# Altium footprint library con-garry.PCBLIB: 24 footprints (part 1 of 2)
Each footprint in its own frame and in the unit in brackets; x right, y up, seen from the top. Pads: shape width x height; smd on the part's side, far side on the other; paste and mask are expansions set on the pad; w line width, h text height; cw(c..) or ccw(c..) is an arc to the next point about the centre after c.
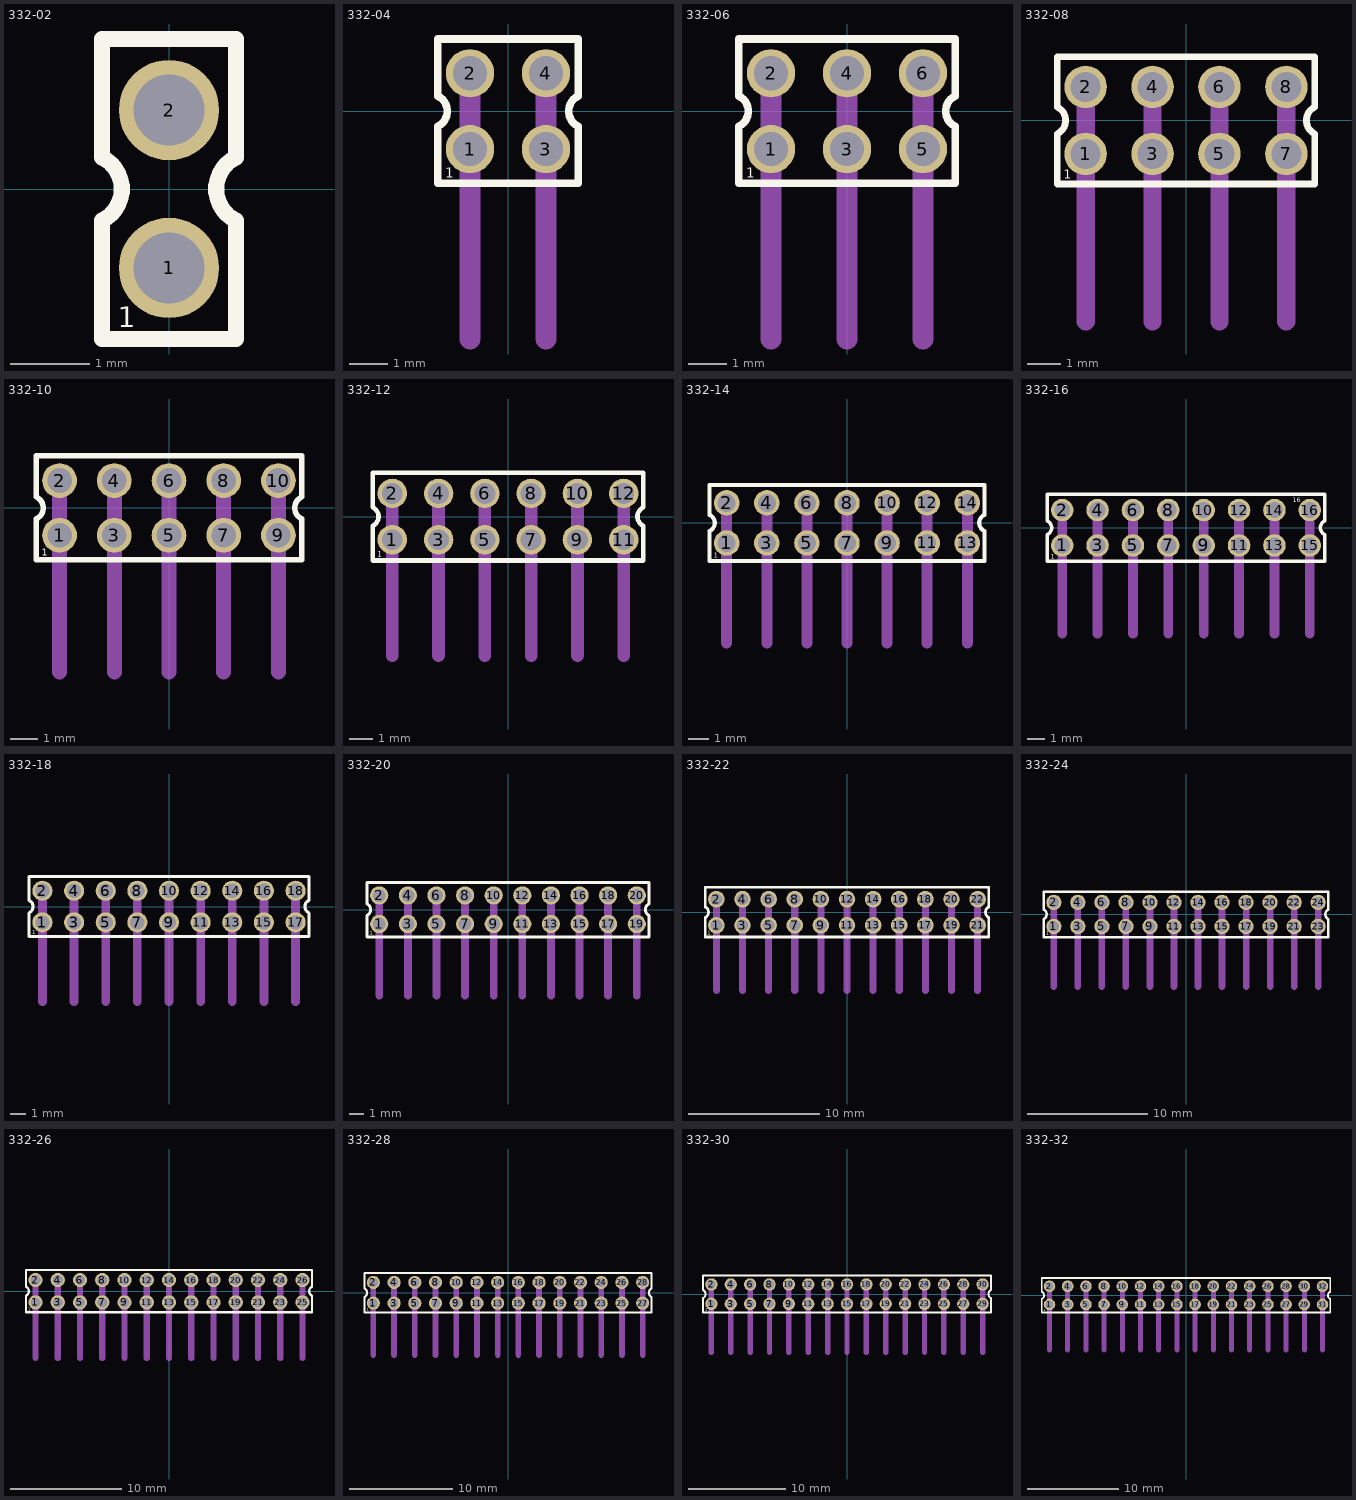
[diagram p0: the footprints below, top view; thin cyan lines are the x and y axes]

## 332-02 [mm]
pads (2):
  round 1.27 hole 0.9: 1(0,-1) 2(0,1)
Top Overlay:
  lines w0.203: -0.85,-1.9 0.85,-1.9 0.85,-0.4 cw(c1.04,0) 0.85,0.4 0.85,1.9 -0.85,1.9 -0.85,0.4 cw(c-1.04,0) -0.85,-0.4 -0.85,-1.9
  text "1" at -0.65,-1.75 h0.26
Mechanical 16:
  rectangle: -0.25,-1.25 0.25,-0.75
  rectangle: -0.25,0.75 0.25,1.25

## 332-04 [mm]
pads (4):
  round 1.27 hole 0.9: 1(-1,-1) 2(-1,1) 3(1,-1) 4(1,1)
Top Overlay:
  lines w0.203: -1.85,-1.9 1.85,-1.9 1.85,-0.4 cw(c2.04,0) 1.85,0.4 1.85,1.9 -1.85,1.9 -1.85,0.4 cw(c-2.04,0) -1.85,-0.4 -1.85,-1.9
  text "1" at -1.65,-1.75 h0.26
Mechanical 16:
  rectangle: -1.25,-1.25 -0.75,-0.75
  rectangle: -1.25,0.75 -0.75,1.25
  rectangle: 0.75,-1.25 1.25,-0.75
  rectangle: 0.75,0.75 1.25,1.25
  lines w0.55: -1,-6 -1,1 ; 1,-6 1,1

## 332-06 [mm]
pads (6):
  round 1.27 hole 0.9: 1(-2,-1) 2(-2,1) 3(0,-1) 4(0,1) 5(2,-1) 6(2,1)
Top Overlay:
  lines w0.203: -2.85,-1.9 2.85,-1.9 2.85,-0.4 cw(c3.04,0) 2.85,0.4 2.85,1.9 -2.85,1.9 -2.85,0.4 cw(c-3.04,0) -2.85,-0.4 -2.85,-1.9
  text "1" at -2.65,-1.75 h0.26
Mechanical 16:
  rectangle: -2.25,-1.25 -1.75,-0.75
  rectangle: -2.25,0.75 -1.75,1.25
  rectangle: -0.25,-1.25 0.25,-0.75
  rectangle: -0.25,0.75 0.25,1.25
  rectangle: 1.75,-1.25 2.25,-0.75
  rectangle: 1.75,0.75 2.25,1.25
  lines w0.55: -2,-6 -2,1 ; 0,-6 0,1 ; 2,-6 2,1

## 332-08 [mm]
pads (8):
  round 1.27 hole 0.9: 1(-3,-1) 2(-3,1) 3(-1,-1) 4(-1,1) 5(1,-1) 6(1,1) 7(3,-1) 8(3,1)
Top Overlay:
  lines w0.203: -3.85,-1.9 3.85,-1.9 3.85,-0.4 cw(c4.04,0) 3.85,0.4 3.85,1.9 -3.85,1.9 -3.85,0.4 cw(c-4.04,0) -3.85,-0.4 -3.85,-1.9
  text "1" at -3.65,-1.75 h0.26
Mechanical 16:
  rectangle: -3.25,-1.25 -2.75,-0.75
  rectangle: -3.25,0.75 -2.75,1.25
  rectangle: -1.25,-1.25 -0.75,-0.75
  rectangle: -1.25,0.75 -0.75,1.25
  rectangle: 0.75,-1.25 1.25,-0.75
  rectangle: 0.75,0.75 1.25,1.25
  rectangle: 2.75,-1.25 3.25,-0.75
  rectangle: 2.75,0.75 3.25,1.25
  lines w0.55: -3,-6 -3,1 ; -1,-6 -1,1 ; 1,-6 1,1 ; 3,-6 3,1

## 332-10 [mm]
pads (10):
  round 1.27 hole 0.9: 1(-4,-1) 2(-4,1) 3(-2,-1) 4(-2,1) 5(0,-1) 6(0,1) 7(2,-1) 8(2,1) 9(4,-1) 10(4,1)
Top Overlay:
  lines w0.203: -4.85,-1.9 4.85,-1.9 4.85,-0.4 cw(c5.04,0) 4.85,0.4 4.85,1.9 -4.85,1.9 -4.85,0.4 cw(c-5.04,0) -4.85,-0.4 -4.85,-1.9
  text "1" at -4.65,-1.75 h0.26
Mechanical 16:
  rectangle: -4.25,-1.25 -3.75,-0.75
  rectangle: -4.25,0.75 -3.75,1.25
  rectangle: -2.25,-1.25 -1.75,-0.75
  rectangle: -2.25,0.75 -1.75,1.25
  rectangle: -0.25,-1.25 0.25,-0.75
  rectangle: -0.25,0.75 0.25,1.25
  rectangle: 1.75,-1.25 2.25,-0.75
  rectangle: 1.75,0.75 2.25,1.25
  rectangle: 3.75,-1.25 4.25,-0.75
  rectangle: 3.75,0.75 4.25,1.25
  lines w0.55: -4,-6 -4,1 ; -2,-6 -2,1 ; 0,-6 0,1 ; 2,-6 2,1 ; 4,-6 4,1

## 332-12 [mm]
pads (12):
  round 1.27 hole 0.9: 1(-5,-1) 2(-5,1) 3(-3,-1) 4(-3,1) 5(-1,-1) 6(-1,1) 7(1,-1) 8(1,1) 9(3,-1) 10(3,1) 11(5,-1) 12(5,1)
Top Overlay:
  lines w0.203: -5.85,-1.9 5.85,-1.9 5.85,-0.4 cw(c6.04,0) 5.85,0.4 5.85,1.9 -5.85,1.9 -5.85,0.4 cw(c-6.04,0) -5.85,-0.4 -5.85,-1.9
  text "1" at -5.65,-1.75 h0.26
Mechanical 16:
  rectangle: -5.25,-1.25 -4.75,-0.75
  rectangle: -5.25,0.75 -4.75,1.25
  rectangle: -3.25,-1.25 -2.75,-0.75
  rectangle: -3.25,0.75 -2.75,1.25
  rectangle: -1.25,-1.25 -0.75,-0.75
  rectangle: -1.25,0.75 -0.75,1.25
  rectangle: 0.75,-1.25 1.25,-0.75
  rectangle: 0.75,0.75 1.25,1.25
  rectangle: 2.75,-1.25 3.25,-0.75
  rectangle: 2.75,0.75 3.25,1.25
  rectangle: 4.75,-1.25 5.25,-0.75
  rectangle: 4.75,0.75 5.25,1.25
  lines w0.55: -5,-6 -5,1 ; -3,-6 -3,1 ; -1,-6 -1,1 ; 1,-6 1,1 ; 3,-6 3,1 ; 5,-6 5,1

## 332-14 [mm]
pads (14):
  round 1.27 hole 0.9: 1(-6,-1) 2(-6,1) 3(-4,-1) 4(-4,1) 5(-2,-1) 6(-2,1) 7(0,-1) 8(0,1) 9(2,-1) 10(2,1) 11(4,-1) 12(4,1) 13(6,-1) 14(6,1)
Top Overlay:
  lines w0.203: -6.85,-1.9 6.85,-1.9 6.85,-0.4 cw(c7.04,0) 6.85,0.4 6.85,1.9 -6.85,1.9 -6.85,0.4 cw(c-7.04,0) -6.85,-0.4 -6.85,-1.9
  text "1" at -6.65,-1.75 h0.26
Mechanical 16:
  rectangle: -6.25,-1.25 -5.75,-0.75
  rectangle: -6.25,0.75 -5.75,1.25
  rectangle: -4.25,-1.25 -3.75,-0.75
  rectangle: -4.25,0.75 -3.75,1.25
  rectangle: -2.25,-1.25 -1.75,-0.75
  rectangle: -2.25,0.75 -1.75,1.25
  rectangle: -0.25,-1.25 0.25,-0.75
  rectangle: -0.25,0.75 0.25,1.25
  rectangle: 1.75,-1.25 2.25,-0.75
  rectangle: 1.75,0.75 2.25,1.25
  rectangle: 3.75,-1.25 4.25,-0.75
  rectangle: 3.75,0.75 4.25,1.25
  rectangle: 5.75,-1.25 6.25,-0.75
  rectangle: 5.75,0.75 6.25,1.25
  lines w0.55: -6,-6 -6,1 ; -4,-6 -4,1 ; -2,-6 -2,1 ; 0,-6 0,1 ; 2,-6 2,1 ; 4,-6 4,1 ; 6,-6 6,1

## 332-16 [mm]
pads (16):
  round 1.27 hole 0.9: 1(-7,-1) 2(-7,1) 3(-5,-1) 4(-5,1) 5(-3,-1) 6(-3,1) 7(-1,-1) 8(-1,1) 9(1,-1) 10(1,1) 11(3,-1) 12(3,1) 13(5,-1) 14(5,1) 15(7,-1) 16(7,1)
Top Overlay:
  lines w0.203: -7.85,-1.9 7.85,-1.9 7.85,-0.4 cw(c8.04,0) 7.85,0.4 7.85,1.9 -7.85,1.9 -7.85,0.4 cw(c-8.04,0) -7.85,-0.4 -7.85,-1.9
  text "1" at -7.65,-1.75 h0.26
  text "16" at 6.025,1.45 h0.26
Mechanical 16:
  rectangle: -7.25,-1.25 -6.75,-0.75
  rectangle: -7.25,0.75 -6.75,1.25
  rectangle: -5.25,-1.25 -4.75,-0.75
  rectangle: -5.25,0.75 -4.75,1.25
  rectangle: -3.25,-1.25 -2.75,-0.75
  rectangle: -3.25,0.75 -2.75,1.25
  rectangle: -1.25,-1.25 -0.75,-0.75
  rectangle: -1.25,0.75 -0.75,1.25
  rectangle: 0.75,-1.25 1.25,-0.75
  rectangle: 0.75,0.75 1.25,1.25
  rectangle: 2.75,-1.25 3.25,-0.75
  rectangle: 2.75,0.75 3.25,1.25
  rectangle: 4.75,-1.25 5.25,-0.75
  rectangle: 4.75,0.75 5.25,1.25
  rectangle: 6.75,-1.25 7.25,-0.75
  rectangle: 6.75,0.75 7.25,1.25
  lines w0.55: -7,-6 -7,1 ; -5,-6 -5,1 ; -3,-6 -3,1 ; -1,-6 -1,1 ; 1,-6 1,1 ; 3,-6 3,1 ; 5,-6 5,1 ; 7,-6 7,1

## 332-18 [mm]
pads (18):
  round 1.27 hole 0.9: 1(-8,-1) 2(-8,1) 3(-6,-1) 4(-6,1) 5(-4,-1) 6(-4,1) 7(-2,-1) 8(-2,1) 9(0,-1) 10(0,1) 11(2,-1) 12(2,1) 13(4,-1) 14(4,1) 15(6,-1) 16(6,1) 17(8,-1) 18(8,1)
Top Overlay:
  lines w0.203: -8.85,-1.9 8.85,-1.9 8.85,-0.4 cw(c9.04,0) 8.85,0.4 8.85,1.9 -8.85,1.9 -8.85,0.4 cw(c-9.04,0) -8.85,-0.4 -8.85,-1.9
  text "1" at -8.65,-1.75 h0.26
Mechanical 16:
  rectangle: -8.25,-1.25 -7.75,-0.75
  rectangle: -8.25,0.75 -7.75,1.25
  rectangle: -6.25,-1.25 -5.75,-0.75
  rectangle: -6.25,0.75 -5.75,1.25
  rectangle: -4.25,-1.25 -3.75,-0.75
  rectangle: -4.25,0.75 -3.75,1.25
  rectangle: -2.25,-1.25 -1.75,-0.75
  rectangle: -2.25,0.75 -1.75,1.25
  rectangle: -0.25,-1.25 0.25,-0.75
  rectangle: -0.25,0.75 0.25,1.25
  rectangle: 1.75,-1.25 2.25,-0.75
  rectangle: 1.75,0.75 2.25,1.25
  rectangle: 3.75,-1.25 4.25,-0.75
  rectangle: 3.75,0.75 4.25,1.25
  rectangle: 5.75,-1.25 6.25,-0.75
  rectangle: 5.75,0.75 6.25,1.25
  rectangle: 7.75,-1.25 8.25,-0.75
  rectangle: 7.75,0.75 8.25,1.25
  lines w0.55: -8,-6 -8,1 ; -6,-6 -6,1 ; -4,-6 -4,1 ; -2,-6 -2,1 ; 0,-6 0,1 ; 2,-6 2,1 ; 4,-6 4,1 ; 6,-6 6,1 ; 8,-6 8,1

## 332-20 [mm]
pads (20):
  round 1.27 hole 0.9: 1(-9,-1) 2(-9,1) 3(-7,-1) 4(-7,1) 5(-5,-1) 6(-5,1) 7(-3,-1) 8(-3,1) 9(-1,-1) 10(-1,1) 11(1,-1) 12(1,1) 13(3,-1) 14(3,1) 15(5,-1) 16(5,1) 17(7,-1) 18(7,1) 19(9,-1) 20(9,1)
Top Overlay:
  lines w0.203: -9.85,-1.9 9.85,-1.9 9.85,-0.4 cw(c10.04,0) 9.85,0.4 9.85,1.9 -9.85,1.9 -9.85,0.4 cw(c-10.04,0) -9.85,-0.4 -9.85,-1.9
  text "1" at -9.65,-1.75 h0.26
Mechanical 16:
  rectangle: -9.25,-1.25 -8.75,-0.75
  rectangle: -9.25,0.75 -8.75,1.25
  rectangle: -7.25,-1.25 -6.75,-0.75
  rectangle: -7.25,0.75 -6.75,1.25
  rectangle: -5.25,-1.25 -4.75,-0.75
  rectangle: -5.25,0.75 -4.75,1.25
  rectangle: -3.25,-1.25 -2.75,-0.75
  rectangle: -3.25,0.75 -2.75,1.25
  rectangle: -1.25,-1.25 -0.75,-0.75
  rectangle: -1.25,0.75 -0.75,1.25
  rectangle: 0.75,-1.25 1.25,-0.75
  rectangle: 0.75,0.75 1.25,1.25
  rectangle: 2.75,-1.25 3.25,-0.75
  rectangle: 2.75,0.75 3.25,1.25
  rectangle: 4.75,-1.25 5.25,-0.75
  rectangle: 4.75,0.75 5.25,1.25
  rectangle: 6.75,-1.25 7.25,-0.75
  rectangle: 6.75,0.75 7.25,1.25
  rectangle: 8.75,-1.25 9.25,-0.75
  rectangle: 8.75,0.75 9.25,1.25
  lines w0.55: -9,-6 -9,1 ; -7,-6 -7,1 ; -5,-6 -5,1 ; -3,-6 -3,1 ; -1,-6 -1,1 ; 1,-6 1,1 ; 3,-6 3,1 ; 5,-6 5,1 ; 7,-6 7,1 ; 9,-6 9,1

## 332-22 [mm]
pads (22):
  round 1.27 hole 0.9: 1(-10,-1) 2(-10,1) 3(-8,-1) 4(-8,1) 5(-6,-1) 6(-6,1) 7(-4,-1) 8(-4,1) 9(-2,-1) 10(-2,1) 11(0,-1) 12(0,1) 13(2,-1) 14(2,1) 15(4,-1) 16(4,1) 17(6,-1) 18(6,1) 19(8,-1) 20(8,1) 21(10,-1) 22(10,1)
Top Overlay:
  lines w0.203: -10.85,-1.9 10.85,-1.9 10.85,-0.4 cw(c11.04,0) 10.85,0.4 10.85,1.9 -10.85,1.9 -10.85,0.4 cw(c-11.04,0) -10.85,-0.4 -10.85,-1.9
  text "1" at -10.65,-1.75 h0.26
Mechanical 16:
  rectangle: -10.25,-1.25 -9.75,-0.75
  rectangle: -10.25,0.75 -9.75,1.25
  rectangle: -8.25,-1.25 -7.75,-0.75
  rectangle: -8.25,0.75 -7.75,1.25
  rectangle: -6.25,-1.25 -5.75,-0.75
  rectangle: -6.25,0.75 -5.75,1.25
  rectangle: -4.25,-1.25 -3.75,-0.75
  rectangle: -4.25,0.75 -3.75,1.25
  rectangle: -2.25,-1.25 -1.75,-0.75
  rectangle: -2.25,0.75 -1.75,1.25
  rectangle: -0.25,-1.25 0.25,-0.75
  rectangle: -0.25,0.75 0.25,1.25
  rectangle: 1.75,-1.25 2.25,-0.75
  rectangle: 1.75,0.75 2.25,1.25
  rectangle: 3.75,-1.25 4.25,-0.75
  rectangle: 3.75,0.75 4.25,1.25
  rectangle: 5.75,-1.25 6.25,-0.75
  rectangle: 5.75,0.75 6.25,1.25
  rectangle: 7.75,-1.25 8.25,-0.75
  rectangle: 7.75,0.75 8.25,1.25
  rectangle: 9.75,-1.25 10.25,-0.75
  rectangle: 9.75,0.75 10.25,1.25
  lines w0.55: -10,-6 -10,1 ; -8,-6 -8,1 ; -6,-6 -6,1 ; -4,-6 -4,1 ; -2,-6 -2,1 ; 0,-6 0,1 ; 2,-6 2,1 ; 4,-6 4,1 ; 6,-6 6,1 ; 8,-6 8,1 ; 10,-6 10,1

## 332-24 [mm]
pads (24):
  round 1.27 hole 0.9: 1(-11,-1) 2(-11,1) 3(-9,-1) 4(-9,1) 5(-7,-1) 6(-7,1) 7(-5,-1) 8(-5,1) 9(-3,-1) 10(-3,1) 11(-1,-1) 12(-1,1) 13(1,-1) 14(1,1) 15(3,-1) 16(3,1) 17(5,-1) 18(5,1) 19(7,-1) 20(7,1) 21(9,-1) 22(9,1) 23(11,-1) 24(11,1)
Top Overlay:
  lines w0.203: -11.85,-1.9 11.85,-1.9 11.85,-0.4 cw(c12.04,0) 11.85,0.4 11.85,1.9 -11.85,1.9 -11.85,0.4 cw(c-12.04,0) -11.85,-0.4 -11.85,-1.9
  text "1" at -11.65,-1.75 h0.26
Mechanical 16:
  rectangle: -11.25,-1.25 -10.75,-0.75
  rectangle: -11.25,0.75 -10.75,1.25
  rectangle: -9.25,-1.25 -8.75,-0.75
  rectangle: -9.25,0.75 -8.75,1.25
  rectangle: -7.25,-1.25 -6.75,-0.75
  rectangle: -7.25,0.75 -6.75,1.25
  rectangle: -5.25,-1.25 -4.75,-0.75
  rectangle: -5.25,0.75 -4.75,1.25
  rectangle: -3.25,-1.25 -2.75,-0.75
  rectangle: -3.25,0.75 -2.75,1.25
  rectangle: -1.25,-1.25 -0.75,-0.75
  rectangle: -1.25,0.75 -0.75,1.25
  rectangle: 0.75,-1.25 1.25,-0.75
  rectangle: 0.75,0.75 1.25,1.25
  rectangle: 2.75,-1.25 3.25,-0.75
  rectangle: 2.75,0.75 3.25,1.25
  rectangle: 4.75,-1.25 5.25,-0.75
  rectangle: 4.75,0.75 5.25,1.25
  rectangle: 6.75,-1.25 7.25,-0.75
  rectangle: 6.75,0.75 7.25,1.25
  rectangle: 8.75,-1.25 9.25,-0.75
  rectangle: 8.75,0.75 9.25,1.25
  rectangle: 10.75,-1.25 11.25,-0.75
  rectangle: 10.75,0.75 11.25,1.25
  lines w0.55: -11,-6 -11,1 ; -9,-6 -9,1 ; -7,-6 -7,1 ; -5,-6 -5,1 ; -3,-6 -3,1 ; -1,-6 -1,1 ; 1,-6 1,1 ; 3,-6 3,1 ; 5,-6 5,1 ; 7,-6 7,1 ; 9,-6 9,1 ; 11,-6 11,1

## 332-26 [mm]
pads (26):
  round 1.27 hole 0.9: 1(-12,-1) 2(-12,1) 3(-10,-1) 4(-10,1) 5(-8,-1) 6(-8,1) 7(-6,-1) 8(-6,1) 9(-4,-1) 10(-4,1) 11(-2,-1) 12(-2,1) 13(0,-1) 14(0,1) 15(2,-1) 16(2,1) 17(4,-1) 18(4,1) 19(6,-1) 20(6,1) 21(8,-1) 22(8,1) 23(10,-1) 24(10,1) 25(12,-1) 26(12,1)
Top Overlay:
  lines w0.203: -12.85,-1.9 12.85,-1.9 12.85,-0.4 cw(c13.04,0) 12.85,0.4 12.85,1.9 -12.85,1.9 -12.85,0.4 cw(c-13.04,0) -12.85,-0.4 -12.85,-1.9
  text "1" at -12.65,-1.75 h0.26
Mechanical 16:
  rectangle: -12.25,-1.25 -11.75,-0.75
  rectangle: -12.25,0.75 -11.75,1.25
  rectangle: -10.25,-1.25 -9.75,-0.75
  rectangle: -10.25,0.75 -9.75,1.25
  rectangle: -8.25,-1.25 -7.75,-0.75
  rectangle: -8.25,0.75 -7.75,1.25
  rectangle: -6.25,-1.25 -5.75,-0.75
  rectangle: -6.25,0.75 -5.75,1.25
  rectangle: -4.25,-1.25 -3.75,-0.75
  rectangle: -4.25,0.75 -3.75,1.25
  rectangle: -2.25,-1.25 -1.75,-0.75
  rectangle: -2.25,0.75 -1.75,1.25
  rectangle: -0.25,-1.25 0.25,-0.75
  rectangle: -0.25,0.75 0.25,1.25
  rectangle: 1.75,-1.25 2.25,-0.75
  rectangle: 1.75,0.75 2.25,1.25
  rectangle: 3.75,-1.25 4.25,-0.75
  rectangle: 3.75,0.75 4.25,1.25
  rectangle: 5.75,-1.25 6.25,-0.75
  rectangle: 5.75,0.75 6.25,1.25
  rectangle: 7.75,-1.25 8.25,-0.75
  rectangle: 7.75,0.75 8.25,1.25
  rectangle: 9.75,-1.25 10.25,-0.75
  rectangle: 9.75,0.75 10.25,1.25
  rectangle: 11.75,-1.25 12.25,-0.75
  rectangle: 11.75,0.75 12.25,1.25
  lines w0.55: -12,-6 -12,1 ; -10,-6 -10,1 ; -8,-6 -8,1 ; -6,-6 -6,1 ; -4,-6 -4,1 ; -2,-6 -2,1 ; 0,-6 0,1 ; 2,-6 2,1 ; 4,-6 4,1 ; 6,-6 6,1 ; 8,-6 8,1 ; 10,-6 10,1 ; 12,-6 12,1

## 332-28 [mm]
pads (28):
  round 1.27 hole 0.9: 1(-13,-1) 2(-13,1) 3(-11,-1) 4(-11,1) 5(-9,-1) 6(-9,1) 7(-7,-1) 8(-7,1) 9(-5,-1) 10(-5,1) 11(-3,-1) 12(-3,1) 13(-1,-1) 14(-1,1) 15(1,-1) 16(1,1) 17(3,-1) 18(3,1) 19(5,-1) 20(5,1) 21(7,-1) 22(7,1) 23(9,-1) 24(9,1) 25(11,-1) 26(11,1) 27(13,-1) 28(13,1)
Top Overlay:
  lines w0.203: -13.85,-1.9 13.85,-1.9 13.85,-0.4 cw(c14.04,0) 13.85,0.4 13.85,1.9 -13.85,1.9 -13.85,0.4 cw(c-14.04,0) -13.85,-0.4 -13.85,-1.9
  text "1" at -13.65,-1.75 h0.26
Mechanical 16:
  rectangle: -13.25,-1.25 -12.75,-0.75
  rectangle: -13.25,0.75 -12.75,1.25
  rectangle: -11.25,-1.25 -10.75,-0.75
  rectangle: -11.25,0.75 -10.75,1.25
  rectangle: -9.25,-1.25 -8.75,-0.75
  rectangle: -9.25,0.75 -8.75,1.25
  rectangle: -7.25,-1.25 -6.75,-0.75
  rectangle: -7.25,0.75 -6.75,1.25
  rectangle: -5.25,-1.25 -4.75,-0.75
  rectangle: -5.25,0.75 -4.75,1.25
  rectangle: -3.25,-1.25 -2.75,-0.75
  rectangle: -3.25,0.75 -2.75,1.25
  rectangle: -1.25,-1.25 -0.75,-0.75
  rectangle: -1.25,0.75 -0.75,1.25
  rectangle: 0.75,-1.25 1.25,-0.75
  rectangle: 0.75,0.75 1.25,1.25
  rectangle: 2.75,-1.25 3.25,-0.75
  rectangle: 2.75,0.75 3.25,1.25
  rectangle: 4.75,-1.25 5.25,-0.75
  rectangle: 4.75,0.75 5.25,1.25
  rectangle: 6.75,-1.25 7.25,-0.75
  rectangle: 6.75,0.75 7.25,1.25
  rectangle: 8.75,-1.25 9.25,-0.75
  rectangle: 8.75,0.75 9.25,1.25
  rectangle: 10.75,-1.25 11.25,-0.75
  rectangle: 10.75,0.75 11.25,1.25
  rectangle: 12.75,-1.25 13.25,-0.75
  rectangle: 12.75,0.75 13.25,1.25
  lines w0.55: -13,-6 -13,1 ; -11,-6 -11,1 ; -9,-6 -9,1 ; -7,-6 -7,1 ; -5,-6 -5,1 ; -3,-6 -3,1 ; -1,-6 -1,1 ; 1,-6 1,1 ; 3,-6 3,1 ; 5,-6 5,1 ; 7,-6 7,1 ; 9,-6 9,1 ; 11,-6 11,1 ; 13,-6 13,1

## 332-30 [mm]
pads (30):
  round 1.27 hole 0.9: 1(-14,-1) 2(-14,1) 3(-12,-1) 4(-12,1) 5(-10,-1) 6(-10,1) 7(-8,-1) 8(-8,1) 9(-6,-1) 10(-6,1) 11(-4,-1) 12(-4,1) 13(-2,-1) 14(-2,1) 15(0,-1) 16(0,1) 17(2,-1) 18(2,1) 19(4,-1) 20(4,1) 21(6,-1) 22(6,1) 23(8,-1) 24(8,1) 25(10,-1) 26(10,1) 27(12,-1) 28(12,1) 29(14,-1) 30(14,1)
Top Overlay:
  lines w0.203: -14.85,-1.9 14.85,-1.9 14.85,-0.4 cw(c15.04,0) 14.85,0.4 14.85,1.9 -14.85,1.9 -14.85,0.4 cw(c-15.04,0) -14.85,-0.4 -14.85,-1.9
  text "1" at -14.65,-1.75 h0.26
Mechanical 16:
  rectangle: -14.25,-1.25 -13.75,-0.75
  rectangle: -14.25,0.75 -13.75,1.25
  rectangle: -12.25,-1.25 -11.75,-0.75
  rectangle: -12.25,0.75 -11.75,1.25
  rectangle: -10.25,-1.25 -9.75,-0.75
  rectangle: -10.25,0.75 -9.75,1.25
  rectangle: -8.25,-1.25 -7.75,-0.75
  rectangle: -8.25,0.75 -7.75,1.25
  rectangle: -6.25,-1.25 -5.75,-0.75
  rectangle: -6.25,0.75 -5.75,1.25
  rectangle: -4.25,-1.25 -3.75,-0.75
  rectangle: -4.25,0.75 -3.75,1.25
  rectangle: -2.25,-1.25 -1.75,-0.75
  rectangle: -2.25,0.75 -1.75,1.25
  rectangle: -0.25,-1.25 0.25,-0.75
  rectangle: -0.25,0.75 0.25,1.25
  rectangle: 1.75,-1.25 2.25,-0.75
  rectangle: 1.75,0.75 2.25,1.25
  rectangle: 3.75,-1.25 4.25,-0.75
  rectangle: 3.75,0.75 4.25,1.25
  rectangle: 5.75,-1.25 6.25,-0.75
  rectangle: 5.75,0.75 6.25,1.25
  rectangle: 7.75,-1.25 8.25,-0.75
  rectangle: 7.75,0.75 8.25,1.25
  rectangle: 9.75,-1.25 10.25,-0.75
  rectangle: 9.75,0.75 10.25,1.25
  rectangle: 11.75,-1.25 12.25,-0.75
  rectangle: 11.75,0.75 12.25,1.25
  rectangle: 13.75,-1.25 14.25,-0.75
  rectangle: 13.75,0.75 14.25,1.25
  lines w0.55: -14,-6 -14,1 ; -12,-6 -12,1 ; -10,-6 -10,1 ; -8,-6 -8,1 ; -6,-6 -6,1 ; -4,-6 -4,1 ; -2,-6 -2,1 ; 0,-6 0,1 ; 2,-6 2,1 ; 4,-6 4,1 ; 6,-6 6,1 ; 8,-6 8,1 ; 10,-6 10,1 ; 12,-6 12,1 ; 14,-6 14,1

## 332-32 [mm]
pads (32):
  round 1.27 hole 0.9: 1(-15,-1) 2(-15,1) 3(-13,-1) 4(-13,1) 5(-11,-1) 6(-11,1) 7(-9,-1) 8(-9,1) 9(-7,-1) 10(-7,1) 11(-5,-1) 12(-5,1) 13(-3,-1) 14(-3,1) 15(-1,-1) 16(-1,1) 17(1,-1) 18(1,1) 19(3,-1) 20(3,1) 21(5,-1) 22(5,1) 23(7,-1) 24(7,1) 25(9,-1) 26(9,1) 27(11,-1) 28(11,1) 29(13,-1) 30(13,1) 31(15,-1) 32(15,1)
Top Overlay:
  lines w0.203: -15.85,-1.9 15.85,-1.9 15.85,-0.4 cw(c16.04,0) 15.85,0.4 15.85,1.9 -15.85,1.9 -15.85,0.4 cw(c-16.04,0) -15.85,-0.4 -15.85,-1.9
  text "1" at -15.65,-1.75 h0.26
Mechanical 16:
  rectangle: -15.25,-1.25 -14.75,-0.75
  rectangle: -15.25,0.75 -14.75,1.25
  rectangle: -13.25,-1.25 -12.75,-0.75
  rectangle: -13.25,0.75 -12.75,1.25
  rectangle: -11.25,-1.25 -10.75,-0.75
  rectangle: -11.25,0.75 -10.75,1.25
  rectangle: -9.25,-1.25 -8.75,-0.75
  rectangle: -9.25,0.75 -8.75,1.25
  rectangle: -7.25,-1.25 -6.75,-0.75
  rectangle: -7.25,0.75 -6.75,1.25
  rectangle: -5.25,-1.25 -4.75,-0.75
  rectangle: -5.25,0.75 -4.75,1.25
  rectangle: -3.25,-1.25 -2.75,-0.75
  rectangle: -3.25,0.75 -2.75,1.25
  rectangle: -1.25,-1.25 -0.75,-0.75
  rectangle: -1.25,0.75 -0.75,1.25
  rectangle: 0.75,-1.25 1.25,-0.75
  rectangle: 0.75,0.75 1.25,1.25
  rectangle: 2.75,-1.25 3.25,-0.75
  rectangle: 2.75,0.75 3.25,1.25
  rectangle: 4.75,-1.25 5.25,-0.75
  rectangle: 4.75,0.75 5.25,1.25
  rectangle: 6.75,-1.25 7.25,-0.75
  rectangle: 6.75,0.75 7.25,1.25
  rectangle: 8.75,-1.25 9.25,-0.75
  rectangle: 8.75,0.75 9.25,1.25
  rectangle: 10.75,-1.25 11.25,-0.75
  rectangle: 10.75,0.75 11.25,1.25
  rectangle: 12.75,-1.25 13.25,-0.75
  rectangle: 12.75,0.75 13.25,1.25
  rectangle: 14.75,-1.25 15.25,-0.75
  rectangle: 14.75,0.75 15.25,1.25
  lines w0.55: -15,-6 -15,1 ; -13,-6 -13,1 ; -11,-6 -11,1 ; -9,-6 -9,1 ; -7,-6 -7,1 ; -5,-6 -5,1 ; -3,-6 -3,1 ; -1,-6 -1,1 ; 1,-6 1,1 ; 3,-6 3,1 ; 5,-6 5,1 ; 7,-6 7,1 ; 9,-6 9,1 ; 11,-6 11,1 ; 13,-6 13,1 ; 15,-6 15,1